# Altium footprint library hsbest3.PcbLib: 363 footprints (part 21 of 23)
Each footprint in its own frame and in the unit in brackets; x right, y up, seen from the top. Pads: shape width x height; smd on the part's side, far side on the other; paste and mask are expansions set on the pad; w line width, h text height; cw(c..) or ccw(c..) is an arc to the next point about the centre after c.
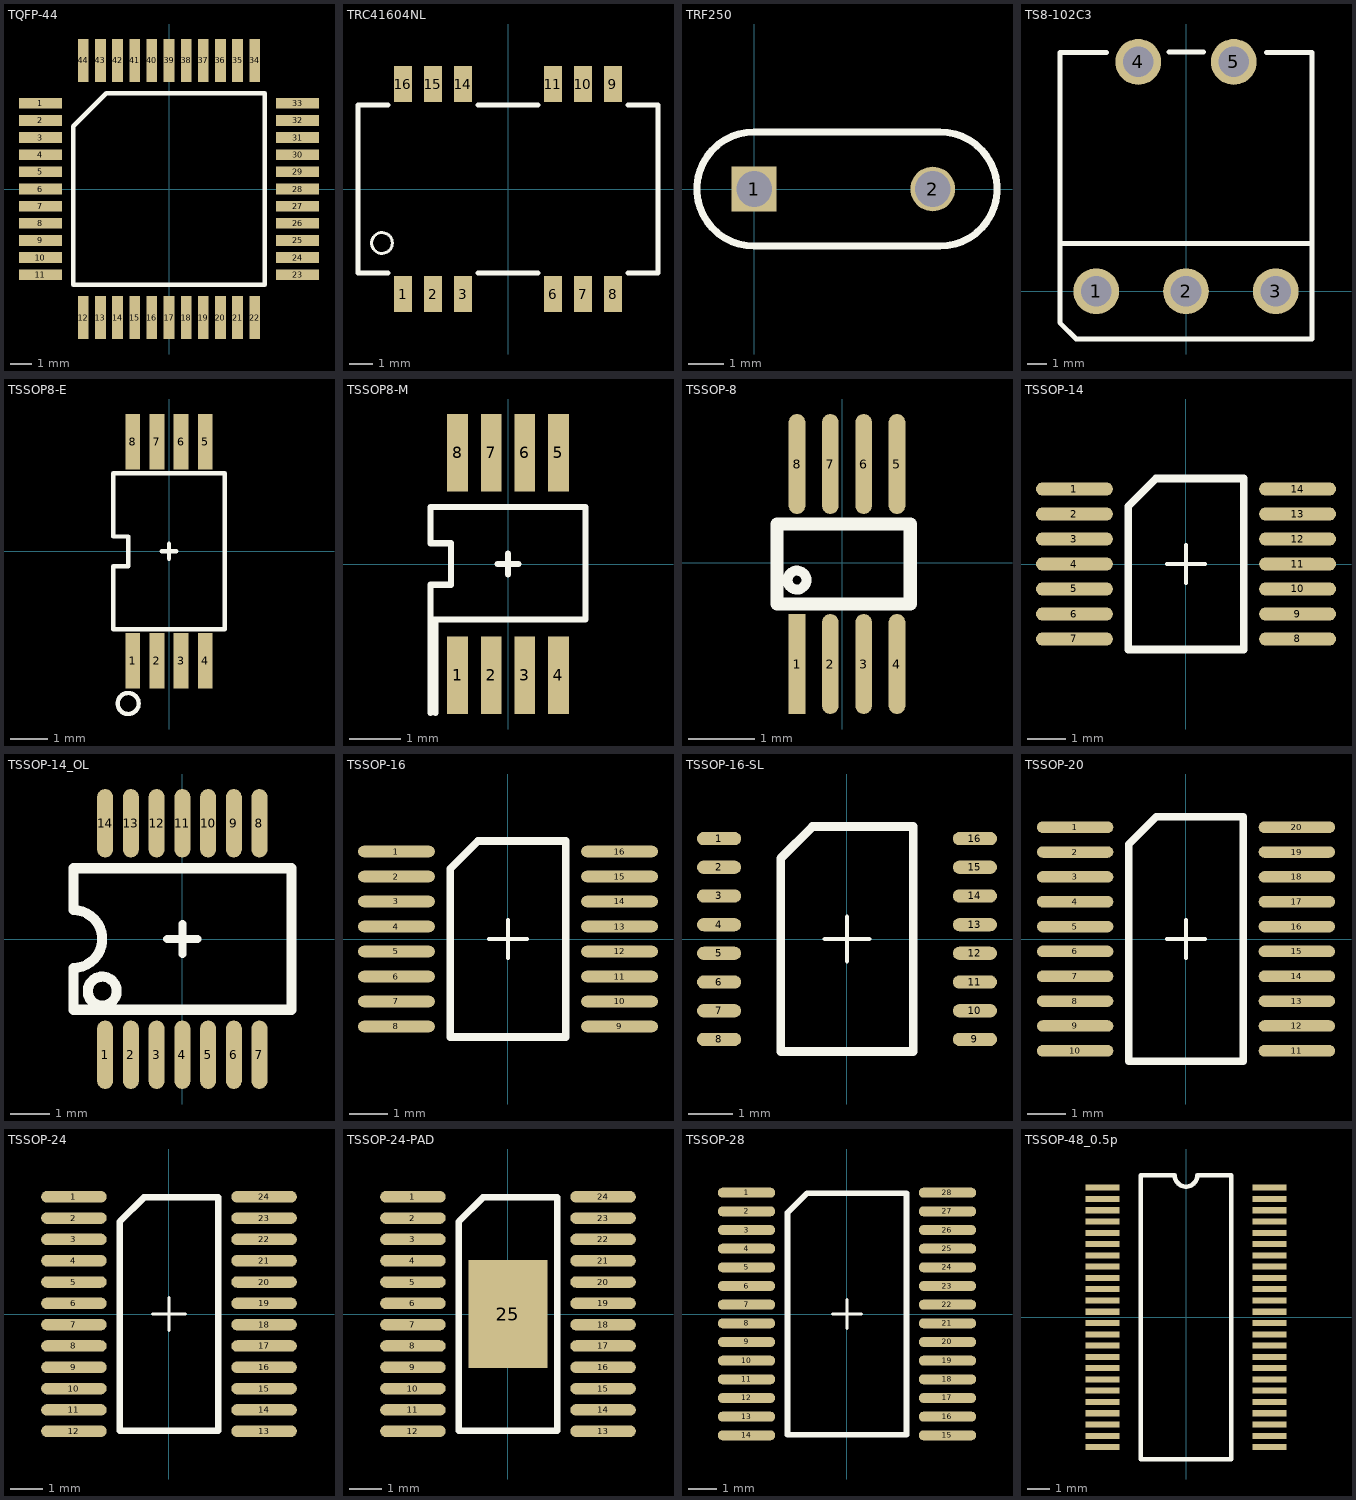
[diagram p20: the footprints below, top view; thin cyan lines are the x and y axes]

## TQFP-44 [mm]
pads (44):
  rect 2x0.5 smd: 1(-6,4) 2(-6,3.2) 3(-6,2.4) 4(-6,1.6) 5(-6,0.8) 6(-6,0) 7(-6,-0.8) 8(-6,-1.6) 9(-6,-2.4) 10(-6,-3.2) 11(-6,-4) 23(6,-4) 24(6,-3.2) 25(6,-2.4) 26(6,-1.6) 27(6,-0.8) 28(6,0) 29(6,0.8) 30(6,1.6) 31(6,2.4) 32(6,3.2) 33(6,4)
  rect 0.5x2 smd: 12(-4,-6) 13(-3.2,-6) 14(-2.4,-6) 15(-1.6,-6) 16(-0.8,-6) 17(0,-6) 18(0.8,-6) 19(1.6,-6) 20(2.4,-6) 21(3.2,-6) 22(4,-6) 34(4,6) 35(3.2,6) 36(2.4,6) 37(1.6,6) 38(0.8,6) 39(0,6) 40(-0.8,6) 41(-1.6,6) 42(-2.4,6) 43(-3.2,6) 44(-4,6)
Top Overlay:
  lines w0.2: -4.465,-4.465 -4.465,2.93 -2.93,4.465 4.465,4.465 4.465,-4.465 -4.465,-4.465

## TRC41604NL [mm]
pads (12):
  rect 0.76x1.52 smd: 1(-4.436,-4.445) 2(-3.168,-4.445) 3(-1.898,-4.445) 6(1.912,-4.445) 7(3.182,-4.445) 8(4.452,-4.445) 9(4.438,4.445) 10(3.168,4.445) 11(1.898,4.445) 14(-1.912,4.445) 15(-3.182,4.445) 16(-4.452,4.445)
Top Overlay:
  circle w0.127: c-5.334,-2.286 r0.439
  lines w0.203: -5.08,-3.556 -6.35,-3.555 -6.35,3.555 -5.08,3.556 ; -1.27,-3.556 1.27,-3.556 ; -1.27,3.556 1.27,3.556 ; 5.08,-3.556 6.35,-3.555 6.35,3.555 5.08,3.556

## TRF250 [mm]
pads (2):
  rect 1.254x1.254 hole 1: 1(0,0)
  round 1.254 hole 1: 2(5,0)
Top Overlay:
  lines w0.2: 0,-1.6 cw(c0,0) 0,1.6 2.9,1.6 5.2,1.6 cw(c5.2,0) 5.2,-1.6 2.9,-1.6 0,-1.6

## TS8-102C3 [mm] "温度传感器"
height 1.25
pads (5):
  round 2.4 hole 1.6: 1(-4.7,0) 2(0,0) 3(4.7,0) 4(-2.5,12) 5(2.5,12)
Top Overlay:
  lines w0.254: -4.15,12.5 -6.6,12.5 -6.6,2.5 ; -0.9,12.525 0.925,12.525 ; 4.2,12.5 6.6,12.5 6.6,2.5 ; -6.6,2.5 6.6,2.5 ; -6.6,2.5 -6.6,-1.65 -5.75,-2.5 6.6,-2.5 6.6,2.5

## TSSOP8-E [mm]
pads (8):
  rect 0.4x1.5 smd: 1(-0.975,-2.95) 2(-0.325,-2.95) 3(0.325,-2.95) 4(0.975,-2.95) 5(0.975,2.95) 6(0.325,2.95) 7(-0.325,2.95) 8(-0.975,2.95)
Top Overlay:
  circle w0.12: c-1.1,-4.1 r0.283
  lines w0.12: -0.2,0 0.2,0 ; 0,-0.2 0,0.2 ; -1.5,-2.1 -1.5,-0.4 -1.1,-0.4 -1.1,0.4 -1.5,0.4 -1.5,2.1 1.5,2.1 1.5,-2.1 -1.5,-2.1

## TSSOP8-M [mm]
pads (8):
  rect 0.4x1.5 smd: 1(-0.975,-2.15) 2(-0.325,-2.15) 3(0.325,-2.15) 4(0.975,-2.15) 5(0.975,2.15) 6(0.325,2.15) 7(-0.325,2.15) 8(-0.975,2.15)
Top Overlay:
  lines w0.12: -1.5,-2.875 -1.5,-1.075 ; -1.4,-2.875 -1.4,-1.075 ; -0.2,0 0.2,0 ; 0,-0.2 0,0.2 ; -1.5,-1.075 1.5,-1.075 1.5,1.1 -1.5,1.1 -1.5,0.4 -1.1,0.4 -1.1,-0.4 -1.5,-0.4 -1.5,-1.075

## TSSOP-8 [mm]
pads (8):
  rect 0.25x1.5 smd: 1(-0.68,-1.518)
  oval 0.25x1.5 smd: 2(-0.18,-1.518) 3(0.32,-1.518) 4(0.82,-1.518) 5(0.82,1.482) 6(0.32,1.482) 7(-0.18,1.482) 8(-0.68,1.482)
Top Overlay:
  circle w0.15: c-0.68,-0.259 r0.141
  lines w0.2: -0.98,-0.618 1.02,-0.618 1.02,0.582 -0.98,0.582 -0.98,0.182 -0.98,-0.218 -0.98,-0.618

## TSSOP-14 [mm] "TSOP, 16-Leads, Body 5x4.4mm, Pitch 0.65mm, IPC Low Density"
height 1.1
pads (14):
  oval 2x0.35 smd: 1(-2.9,1.95) 2(-2.9,1.3) 3(-2.9,0.65) 4(-2.9,0) 5(-2.9,-0.65) 6(-2.9,-1.3) 7(-2.9,-1.95) 8(2.9,-1.95) 9(2.9,-1.3) 10(2.9,-0.65) 11(2.9,0) 12(2.9,0.65) 13(2.9,1.3) 14(2.9,1.95)
Top Overlay:
  lines w0.1: -0.5,0 0.5,0 ; 0,-0.5 0,0.5
  lines w0.2: -1.5,-2.225 -1.5,1.504 -0.779,2.225 1.5,2.225 1.5,-2.225 -1.5,-2.225

## TSSOP-14_OL [mil]
pads (14):
  oval 16x68 smd: 1(-76.75,-115.2) 2(-51.2,-115.2) 3(-25.6,-115.2) 4(0,-115.2) 5(25.6,-115.2) 6(51.2,-115.2) 7(76.75,-115.2) 8(76.75,115.2) 9(51.2,115.2) 10(25.6,115.2) 11(0,115.2) 12(-25.6,115.2) 13(-51.2,115.2) 14(-76.75,115.2)
Top Overlay:
  circle w10: c-79.65,-51.85 r14.4
  lines w8: -15,0 15,0 ; 0,-15 0,15
  lines w10: -108.45,-70.35 -108.45,-28.8 ccw(c-108.45,0) -108.45,28.8 -108.45,70.35 108.45,70.35 108.45,-70.35 -108.45,-70.35

## TSSOP-16 [mm] "TSOP, 16-Leads, Body 5x4.4mm, Pitch 0.65mm, IPC Low Density"
height 1.1
pads (16):
  oval 2x0.3 smd: 1(-2.9,2.275) 2(-2.9,1.625) 3(-2.9,0.975) 4(-2.9,0.325) 5(-2.9,-0.325) 6(-2.9,-0.975) 7(-2.9,-1.625) 8(-2.9,-2.275) 9(2.9,-2.275) 10(2.9,-1.625) 11(2.9,-0.975) 12(2.9,-0.325) 13(2.9,0.325) 14(2.9,0.975) 15(2.9,1.625) 16(2.9,2.275)
Top Overlay:
  lines w0.1: -0.5,0 0.5,0 ; 0,-0.5 0,0.5
  lines w0.2: -1.5,-2.55 1.5,-2.55 1.5,2.55 -0.779,2.55 -1.5,1.829 -1.5,-2.55

## TSSOP-16-SL [mm] "TSOP, 16-Leads, Body 5x4.4mm, Pitch 0.65mm, IPC Low Density"
height 1.1
pads (16):
  oval 1x0.3 smd: 1(-2.9,2.275) 2(-2.9,1.625) 3(-2.9,0.975) 4(-2.9,0.325) 5(-2.9,-0.325) 6(-2.9,-0.975) 7(-2.9,-1.625) 8(-2.9,-2.275) 9(2.9,-2.275) 10(2.9,-1.625) 11(2.9,-0.975) 12(2.9,-0.325) 13(2.9,0.325) 14(2.9,0.975) 15(2.9,1.625) 16(2.9,2.275)
Top Overlay:
  lines w0.1: -0.5,0 0.5,0 ; 0,-0.5 0,0.5
  lines w0.2: -1.5,-2.55 -1.5,1.829 -0.779,2.55 1.5,2.55 1.5,-2.55 -1.5,-2.55

## TSSOP-20 [mm] "TSOP, 16-Leads, Body 5x4.4mm, Pitch 0.65mm, IPC Low Density"
height 1.1
pads (20):
  oval 2x0.3 smd: 1(-2.9,2.925) 2(-2.9,2.275) 3(-2.9,1.625) 4(-2.9,0.975) 5(-2.9,0.325) 6(-2.9,-0.325) 7(-2.9,-0.975) 8(-2.9,-1.625) 9(-2.9,-2.275) 10(-2.9,-2.925) 11(2.9,-2.925) 12(2.9,-2.275) 13(2.9,-1.625) 14(2.9,-0.975) 15(2.9,-0.325) 16(2.9,0.325) 17(2.9,0.975) 18(2.9,1.625) 19(2.9,2.275) 20(2.9,2.925)
Top Overlay:
  lines w0.1: -0.5,0 0.5,0 ; 0,-0.5 0,0.5
  lines w0.2: 1.5,-3.2 -1.5,-3.2 -1.5,2.479 -0.779,3.2 1.5,3.2 1.5,-3.175

## TSSOP-24 [mm] "TSOP, 16-Leads, Body 5x4.4mm, Pitch 0.65mm, IPC Low Density"
height 1.1
pads (24):
  oval 2x0.35 smd: 1(-2.9,3.575) 2(-2.9,2.925) 3(-2.9,2.275) 4(-2.9,1.625) 5(-2.9,0.975) 6(-2.9,0.325) 7(-2.9,-0.325) 8(-2.9,-0.975) 9(-2.9,-1.625) 10(-2.9,-2.275) 11(-2.9,-2.925) 12(-2.9,-3.575) 13(2.9,-3.575) 14(2.9,-2.925) 15(2.9,-2.275) 16(2.9,-1.625) 17(2.9,-0.975) 18(2.9,-0.325) 19(2.9,0.325) 20(2.9,0.975) 21(2.9,1.625) 22(2.9,2.275) 23(2.9,2.925) 24(2.9,3.575)
Top Overlay:
  lines w0.1: -0.5,0 0.5,0 ; 0,-0.5 0,0.5
  lines w0.2: -1.5,-3.556 1.5,-3.556 1.5,3.556 -0.762,3.556 -1.5,2.818 -1.5,-3.556

## TSSOP-24-PAD [mm] "TSOP, 16-Leads, Body 5x4.4mm, Pitch 0.65mm, IPC Low Density"
height 1.1
pads (25):
  oval 2x0.35 smd: 1(-2.9,3.575) 2(-2.9,2.925) 3(-2.9,2.275) 4(-2.9,1.625) 5(-2.9,0.975) 6(-2.9,0.325) 7(-2.9,-0.325) 8(-2.9,-0.975) 9(-2.9,-1.625) 10(-2.9,-2.275) 11(-2.9,-2.925) 12(-2.9,-3.575) 13(2.9,-3.575) 14(2.9,-2.925) 15(2.9,-2.275) 16(2.9,-1.625) 17(2.9,-0.975) 18(2.9,-0.325) 19(2.9,0.325) 20(2.9,0.975) 21(2.9,1.625) 22(2.9,2.275) 23(2.9,2.925) 24(2.9,3.575)
  rect 2.4x3.28 smd: 25(0,0)
Top Overlay:
  lines w0.2: -1.5,-3.556 1.5,-3.556 1.5,3.556 -0.762,3.556 -1.5,2.818 -1.5,-3.556

## TSSOP-28 [mm] "TSOP, 16-Leads, Body 5x4.4mm, Pitch 0.65mm, IPC Low Density"
height 1.1
pads (28):
  oval 2x0.35 smd: 1(-3.5,4.225) 2(-3.5,3.575) 3(-3.5,2.925) 4(-3.5,2.275) 5(-3.5,1.625) 6(-3.5,0.975) 7(-3.5,0.325) 8(-3.5,-0.325) 9(-3.5,-0.975) 10(-3.5,-1.625) 11(-3.5,-2.275) 12(-3.5,-2.925) 13(-3.5,-3.575) 14(-3.5,-4.225) 15(3.5,-4.225) 16(3.5,-3.575) 17(3.5,-2.925) 18(3.5,-2.275) 19(3.5,-1.625) 20(3.5,-0.975) 21(3.5,-0.325) 22(3.5,0.325) 23(3.5,0.975) 24(3.5,1.625) 25(3.5,2.275) 26(3.5,2.925) 27(3.5,3.575) 28(3.5,4.225)
Top Overlay:
  lines w0.1: -0.5,0 0.5,0 ; 0,-0.5 0,0.5
  lines w0.2: -2.075,-4.206 -2.075,3.525 -1.394,4.206 2.075,4.206 2.075,-4.206 -2.075,-4.206

## TSSOP-48_0.5p [mm]
pads (48):
  rect 1.5x0.27 smd: 1(-3.7,5.75) 2(-3.7,5.25) 3(-3.7,4.75) 4(-3.7,4.25) 5(-3.7,3.75) 6(-3.7,3.25) 7(-3.7,2.75) 8(-3.7,2.25) 9(-3.7,1.75) 10(-3.7,1.25) 11(-3.7,0.75) 12(-3.7,0.25) 13(-3.7,-0.25) 14(-3.7,-0.75) 15(-3.7,-1.25) 16(-3.7,-1.75) 17(-3.7,-2.25) 18(-3.7,-2.75) 19(-3.7,-3.25) 20(-3.7,-3.75) 21(-3.7,-4.25) 22(-3.7,-4.75) 23(-3.7,-5.25) 24(-3.7,-5.75) 25(3.7,-5.75) 26(3.7,-5.25) 27(3.7,-4.75) 28(3.7,-4.25) 29(3.7,-3.75) 30(3.7,-3.25) 31(3.7,-2.75) 32(3.7,-2.25) 33(3.7,-1.75) 34(3.7,-1.25) 35(3.7,-0.75) 36(3.7,-0.25) 37(3.7,0.25) 38(3.7,0.75) 39(3.7,1.25) 40(3.7,1.75) 41(3.7,2.25) 42(3.7,2.75) 43(3.7,3.25) 44(3.7,3.75) 45(3.7,4.25) 46(3.7,4.75) 47(3.7,5.25) 48(3.7,5.75)
Top Overlay:
  lines w0.2: -2,-6.3 2,-6.3 2,6.3 0.5,6.3 cw(c0,6.3) -0.5,6.3 -2,6.3 -2,-6.3